# Altium schematic symbol library STM32F0.SchLib: 143 symbols (part 3 of 11)
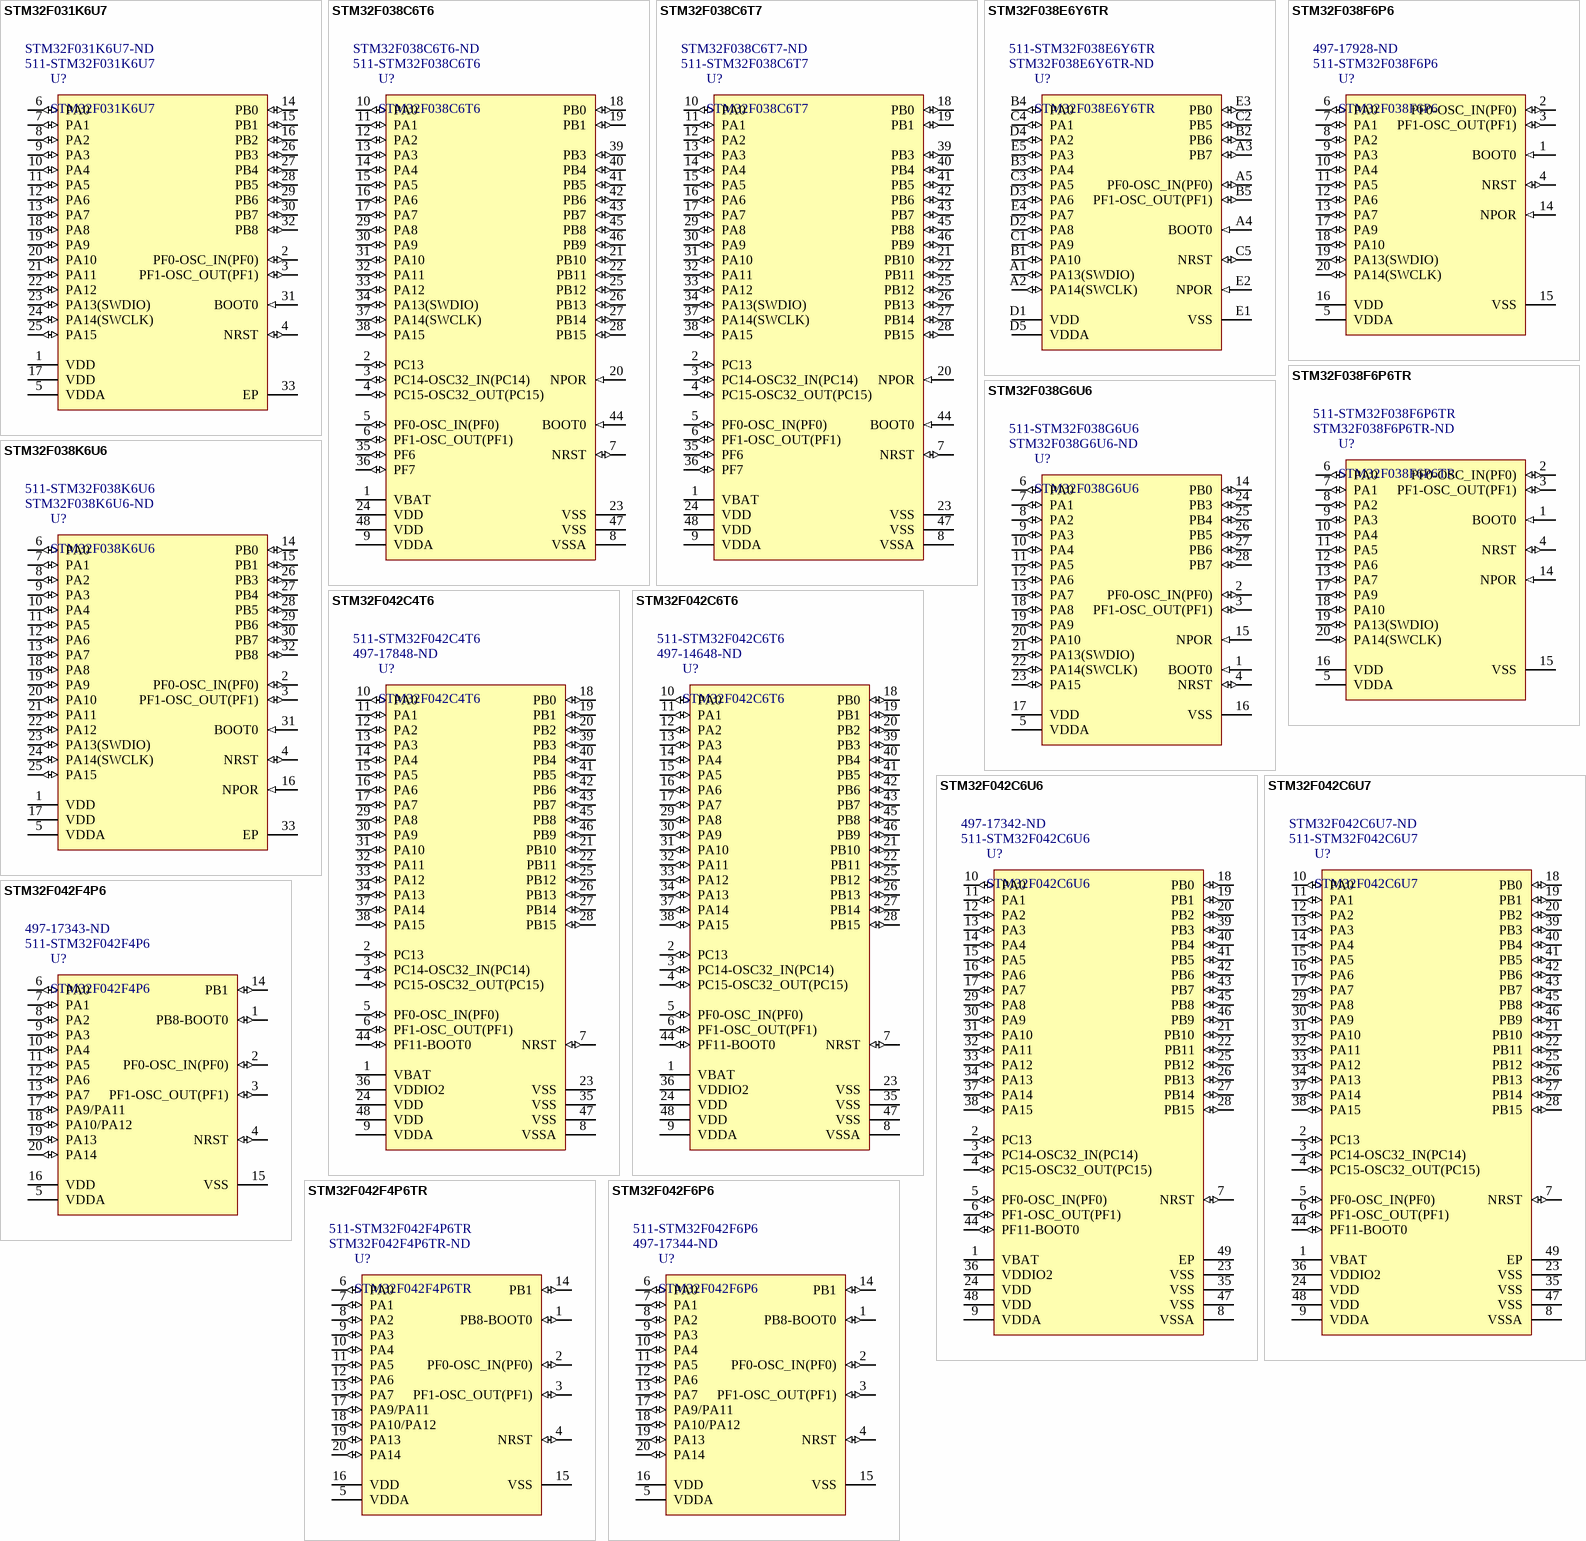
[diagram p16: symbols STM32F031K6U7 to STM32F042F6P6]

## STM32F031K6U7
designator U?  Supplier Part Number 1: 511-STM32F031K6U7  Supplier Part Number 2: STM32F031K6U7-ND
ARM Cortex-M0 32-bit MCU, 32 KB Flash, 4 KB Internal RAM, 27 I/Os, 32-Pin UFQFPN, -40 to 105 degC, Tray; Supply Voltage(Vcc) min (V): 2; Internal RAM Size (kB): 4; FLASH Size (Prog) (kB): 32; Operating Frequency(F) (Processor speed) (MHz): 48; I/Os (High Current): 27; ComponentLink1Description: Manufacturer URL; Mounting Technology: Surface Mount; Package Description: 32-Pin Ultra Thin Fine Pitch Quad Flat No-Lead, 5 x 5 x 0.6 mm Body, 0.5 mm Pitch, Exposed Pad 3.5 x 3.5 mm; ComponentLink1URL: http://www.st.com/; Core: ARM Cortex-M0; ComponentLink2Description: Datasheet; Package Reference: UFQFPN32; ComponentLink2URL: http://www.st.com/st-web-ui/static/active/en/resource/technical/document/datasheet/DM00104043.pdf; DatasheetVersion: Rev. 3; Packing: Tray; Supplier 1: Mouser; Supplier 2: Digi-Key
footprint STM-UFQFPN32_L (QFN, 32-Leads, Body 5.1x5.1mm, Pitch 0.5mm, Thermal Pad 3.5x3.5mm, IPC High Density)
footprint STM-UFQFPN32_M (QFN, 32-Leads, Body 5.1x5.1mm, Pitch 0.5mm, Thermal Pad 3.5x3.5mm, IPC Low Density)
footprint STM-UFQFPN32_N (QFN, 32-Leads, Body 5.1x5.1mm, Pitch 0.5mm, Thermal Pad 3.5x3.5mm, IPC Medium Density)
pins: 1 VDD (power) "Digital power supply", 2 PF0-OSC_IN(PF0) (io) "PF0-OSC_IN(PF0)/OSC_IN", 3 PF1-OSC_OUT(PF1) (io) "PF1-OSC_OUT(PF1)/OSC_OUT", 4 NRST (io) "Device reset input/internal reset output(active low)", 5 VDDA (power) "Analog power supply", 6 PA0 (io) "PA0/TIM2_CH1_ETR,USART1_CTS/ADC_IN0,RTC_TAMP2,WKUP1", 7 PA1 (io) "PA1/TIM2_CH2,EVENTOUT,USART1_RTS/ADC_IN1", 8 PA2 (io) "PA2/TIM2_CH3,USART1_TX/ADC_IN2", 9 PA3 (io) "PA3/TIM2_CH4,USART1_RX/ADC_IN3", 10 PA4 (io) "PA4/SPI1_NSS,I2S1_WS,TIM14_CH1,USART1_CK/ADC_IN4", 11 PA5 (io) "PA5/SPI1_SCK,I2S1_CK,TIM2_CH1_ETR/ADC_IN5", 12 PA6 (io) "PA6/SPI1_MISO,I2S1_MCK,TIM3_CH1,TIM1_BKIN,TIM16_CH1,EVENTOUT/ADC_IN6", 13 PA7 (io) "PA7/SPI1_MOSI,I2S1_SD,TIM3_CH2,TIM14_CH1,TIM1_CH1N,TIM17_CH1,EVENTOUT/ADC_IN7", 14 PB0 (io) "PB0/TIM3_CH3,TIM1_CH2N,EVENTOUT/ADC_IN8", 15 PB1 (io) "PB1/TIM3_CH4,TIM14_CH1,TIM1_CH3N/ADC_IN9", 16 PB2 (io), 17 VDD (power) "Digital power supply", 18 PA8 (io) "PA8/USART1_CK,TIM1_CH1,EVENTOUT,MCO", 19 PA9 (io) "PA9/USART1_TX,TIM1_CH2,I2C1_SCL", 20 PA10 (io) "PA10/USART1_RX,TIM1_CH3,TIM17_BKIN,I2C1_SDA", 21 PA11 (io) "PA11/USART1_CTS,TIM1_CH4,EVENTOUT", 22 PA12 (io) "PA12/USART1_RTS,TIM1_ETR,EVENTOUT", 23 PA13(SWDIO) (io) "PA13(SWDIO)/IR_OUT,SWDIO", 24 PA14(SWCLK) (io) "PA14(SWCLK)/USART1_TX,SWCLK", 25 PA15 (io) "PA15/SPI1_NSS,I2S1_WS,TIM2_CH_ETR,EVENTOUT,USART1_RX", 26 PB3 (io) "PB3/SPI1_SCK,I2S1_CK,TIM2_CH2,EVENTOUT", 27 PB4 (io) "PB4/SPI1_MISO,I2S1_MCK,TIM3_CH1,EVENTOUT", 28 PB5 (io) "PB5/SPI1_MOSI,I2S1_SD,I2C1_SMBA,TIM16_BKIN,TIM3_CH2", 29 PB6 (io) "PB6/I2C1_SCL,USART1_TX,TIM16_CH1N", 30 PB7 (io) "PB7/I2C1_SDA,USART1_RX,TIM17_CH1N", 31 BOOT0 (in) "Boot memory selection", 32 PB8 (io) "PB8/I2C1_SCL,TIM16_CH1", 33 EP (power)

## STM32F038C6T6
designator U?  Supplier Part Number 1: 511-STM32F038C6T6  Supplier Part Number 2: STM32F038C6T6-ND
ARM Cortex-M0 32-bit MCU, 32 KB Flash, 4 KB Internal RAM, 38 I/Os, 48-Pin LQFP, -40 to 85 degC, Tray; Supply Voltage(Vcc) min (V): 1.65; I/Os (High Current): 38; Operating Frequency(F) (Processor speed) (MHz): 48; FLASH Size (Prog) (kB): 32; Internal RAM Size (kB): 4; Package Reference: LQFP48; ComponentLink1URL: http://www.st.com/; Core: ARM Cortex-M0; ComponentLink2Description: Datasheet; Mounting Technology: Surface Mount; ComponentLink2URL: http://www.st.com/st-web-ui/static/active/en/resource/technical/document/datasheet/DM00110868.pdf; Package Description: 48-Pin Low Profile Quad Flat Package, Body 7 x 7 mm, Pitch 0.5 mm; DatasheetVersion: Rev. 4; Packing: Tray; ComponentLink1Description: Manufacturer URL; Supplier 1: Mouser; Supplier 2: Digi-Key
footprint STM-LQFP48_L (QFP, 48-Leads, Body 7x7mm, Pitch 0.5mm, IPC High Density)
footprint STM-LQFP48_M (QFP, 48-Leads, Body 7x7mm, Pitch 0.5mm, IPC Low Density)
footprint STM-LQFP48_N (QFP, 48-Leads, Body 7x7mm, Pitch 0.5mm, IPC Medium Density)
pins: 1 VBAT (power) "Backup power supply", 2 PC13 (io) "PC13/RTC_TAMP1,RTC_TS,RTC_OUT,WKUP2", 3 PC14-OSC32_IN(PC14) (io) "PC14/OSC32_IN", 4 PC15-OSC32_OUT(PC15) (io) "PC15/OSC32_OUT", 5 PF0-OSC_IN(PF0) (io) "PF0/OSC_IN", 6 PF1-OSC_OUT(PF1) (io) "PF1/OSC_OUT", 7 NRST (io) "Device reset input/internal reset output(active low)", 8 VSSA (power) "Analog ground", 9 VDDA (power) "Analog power supply", 10 PA0 (io) "PA0/TIM2_CH1_ETR,USART1_CTS/ADC_IN0,RTC_TAMP2,WKUP1", 11 PA1 (io) "PA1/TIM2_CH2,EVENTOUT,USART1_RTS/ADC_IN1", 12 PA2 (io) "PA2/TIM2_CH3,USART1_TX/ADC_IN2", 13 PA3 (io) "PA3/TIM2_CH4,USART1_RX/ADC_IN3", 14 PA4 (io) "PA4/SPI1_NSS,I2S1_WS,TIM14_CH1,USART1_CK/ADC_IN4", 15 PA5 (io) "PA5/SPI1_SCK,I2S1_CK,TIM2_CH1_ETR/ADC_IN5", 16 PA6 (io) "PA6/SPI1_MISO,I2S1_MCK,TIM3_CH1,TIM1_BKIN,TIM16_CH1,EVENTOUT/ADC_IN6", 17 PA7 (io) "PA7/SPI1_MOSI,I2S1_SD,TIM3_CH2,TIM14_CH1,TIM1_CH1N,TIM17_CH1,EVENTOUT/ADC_IN7", 18 PB0 (io) "PB0/TIM3_CH3,TIM1_CH2N,EVENTOUT/ADC_IN8", 19 PB1 (io) "PB1/TIM3_CH4,TIM14_CH1,TIM1_CH3N/ADC_IN9", 20 NPOR (in) "Device power-on reset input", 21 PB10 (io) "PB10/TIM2_CH3,I2C1_SCL", 22 PB11 (io) "PB11/TIM2_CH4,EVENTOUT,I2C1_SDA", 23 VSS (power) "Ground", 24 VDD (power) "Digital power supply", 25 PB12 (io) "PB12/TIM1_BKIN,EVENTOUT,SPI1_NSS", 26 PB13 (io) "PB13/TIM1_CH1N,SPI1_SCK", 27 PB14 (io) "PB14/TIM1_CH2N,SPI1_MISO", 28 PB15 (io) "PB15/TIM1_CH3N,SPI1_MOSI/RTC_REFIN", 29 PA8 (io) "PA8/USART1_CK,TIM1_CH1,EVENTOUT,MCO", 30 PA9 (io) "PA9/USART1_TX,TIM1_CH2,I2C1_SCL", 31 PA10 (io) "PA10/USART1_RX,TIM1_CH3,TIM17_BKIN,I2C1_SDA", 32 PA11 (io) "PA11/USART1_CTS,TIM1_CH4,EVENTOUT", 33 PA12 (io) "PA12/USART1_RTS,TIM1_ETR,EVENTOUT", 34 PA13(SWDIO) (io) "PA13/IR_OUT,SWDIO", 35 PF6 (io) "PF6/I2C1_SCL", 36 PF7 (io) "PF7/I2C1_SDA", 37 PA14(SWCLK) (io) "PA14/USART1_TX,SWCLK", 38 PA15 (io) "PA15/SPI1_NSS,I2S1_WS,TIM2_CH_ETR,EVENTOUT,USART1_RX", 39 PB3 (io) "PB3/SPI1_SCK,I2S1_CK,TIM2_CH2,EVENTOUT", 40 PB4 (io) "PB4/SPI1_MISO,I2S1_MCK,TIM3_CH1,EVENTOUT", 41 PB5 (io) "PB5/SPI1_MOSI,I2S1_SD,I2C1_SMBA,TIM16_BKIN,TIM3_CH2", 42 PB6 (io) "PB6/I2C1_SCL,USART1_TX,TIM16_CH1N", 43 PB7 (io) "PB7/I2C1_SDA,USART1_RX,TIM17_CH1N", 44 BOOT0 (in) "Boot memory selection", 45 PB8 (io) "PB8/I2C1_SCL,TIM16_CH1", 46 PB9 (io) "PB9/I2C1_SDA,IR_OUT,TIM17_CH1,EVENTOUT", 47 VSS (power) "Ground", 48 VDD (power) "Digital power supply"

## STM32F038C6T7
designator U?  Supplier Part Number 1: 511-STM32F038C6T7  Supplier Part Number 2: STM32F038C6T7-ND
ARM Cortex-M0 32-bit MCU, 32 KB Flash, 4 KB Internal RAM, 38 I/Os, 48-Pin LQFP, -40 to 105 degC, Tray; Supply Voltage(Vcc) min (V): 1.65; Internal RAM Size (kB): 4; I/Os (High Current): 38; FLASH Size (Prog) (kB): 32; Operating Frequency(F) (Processor speed) (MHz): 48; Packing: Tray; Mounting Technology: Surface Mount; ComponentLink2URL: http://www.st.com/st-web-ui/static/active/en/resource/technical/document/datasheet/DM00110868.pdf; ComponentLink1URL: http://www.st.com/; ComponentLink2Description: Datasheet; Package Description: 48-Pin Low Profile Quad Flat Package, Body 7 x 7 mm, Pitch 0.5 mm; Package Reference: LQFP48; ComponentLink1Description: Manufacturer URL; Core: ARM Cortex-M0; DatasheetVersion: Rev. 4; Supplier 1: Mouser; Supplier 2: Digi-Key
footprint STM-LQFP48_L (QFP, 48-Leads, Body 7x7mm, Pitch 0.5mm, IPC High Density)
footprint STM-LQFP48_M (QFP, 48-Leads, Body 7x7mm, Pitch 0.5mm, IPC Low Density)
footprint STM-LQFP48_N (QFP, 48-Leads, Body 7x7mm, Pitch 0.5mm, IPC Medium Density)
pins: 1 VBAT (power) "Backup power supply", 2 PC13 (io) "PC13/RTC_TAMP1,RTC_TS,RTC_OUT,WKUP2", 3 PC14-OSC32_IN(PC14) (io) "PC14/OSC32_IN", 4 PC15-OSC32_OUT(PC15) (io) "PC15/OSC32_OUT", 5 PF0-OSC_IN(PF0) (io) "PF0/OSC_IN", 6 PF1-OSC_OUT(PF1) (io) "PF1/OSC_OUT", 7 NRST (io) "Device reset input/internal reset output(active low)", 8 VSSA (power) "Analog ground", 9 VDDA (power) "Analog power supply", 10 PA0 (io) "PA0/TIM2_CH1_ETR,USART1_CTS/ADC_IN0,RTC_TAMP2,WKUP1", 11 PA1 (io) "PA1/TIM2_CH2,EVENTOUT,USART1_RTS/ADC_IN1", 12 PA2 (io) "PA2/TIM2_CH3,USART1_TX/ADC_IN2", 13 PA3 (io) "PA3/TIM2_CH4,USART1_RX/ADC_IN3", 14 PA4 (io) "PA4/SPI1_NSS,I2S1_WS,TIM14_CH1,USART1_CK/ADC_IN4", 15 PA5 (io) "PA5/SPI1_SCK,I2S1_CK,TIM2_CH1_ETR/ADC_IN5", 16 PA6 (io) "PA6/SPI1_MISO,I2S1_MCK,TIM3_CH1,TIM1_BKIN,TIM16_CH1,EVENTOUT/ADC_IN6", 17 PA7 (io) "PA7/SPI1_MOSI,I2S1_SD,TIM3_CH2,TIM14_CH1,TIM1_CH1N,TIM17_CH1,EVENTOUT/ADC_IN7", 18 PB0 (io) "PB0/TIM3_CH3,TIM1_CH2N,EVENTOUT/ADC_IN8", 19 PB1 (io) "PB1/TIM3_CH4,TIM14_CH1,TIM1_CH3N/ADC_IN9", 20 NPOR (in) "Device power-on reset input", 21 PB10 (io) "PB10/TIM2_CH3,I2C1_SCL", 22 PB11 (io) "PB11/TIM2_CH4,EVENTOUT,I2C1_SDA", 23 VSS (power) "Ground", 24 VDD (power) "Digital power supply", 25 PB12 (io) "PB12/TIM1_BKIN,EVENTOUT,SPI1_NSS", 26 PB13 (io) "PB13/TIM1_CH1N,SPI1_SCK", 27 PB14 (io) "PB14/TIM1_CH2N,SPI1_MISO", 28 PB15 (io) "PB15/TIM1_CH3N,SPI1_MOSI/RTC_REFIN", 29 PA8 (io) "PA8/USART1_CK,TIM1_CH1,EVENTOUT,MCO", 30 PA9 (io) "PA9/USART1_TX,TIM1_CH2,I2C1_SCL", 31 PA10 (io) "PA10/USART1_RX,TIM1_CH3,TIM17_BKIN,I2C1_SDA", 32 PA11 (io) "PA11/USART1_CTS,TIM1_CH4,EVENTOUT", 33 PA12 (io) "PA12/USART1_RTS,TIM1_ETR,EVENTOUT", 34 PA13(SWDIO) (io) "PA13/IR_OUT,SWDIO", 35 PF6 (io) "PF6/I2C1_SCL", 36 PF7 (io) "PF7/I2C1_SDA", 37 PA14(SWCLK) (io) "PA14/USART1_TX,SWCLK", 38 PA15 (io) "PA15/SPI1_NSS,I2S1_WS,TIM2_CH_ETR,EVENTOUT,USART1_RX", 39 PB3 (io) "PB3/SPI1_SCK,I2S1_CK,TIM2_CH2,EVENTOUT", 40 PB4 (io) "PB4/SPI1_MISO,I2S1_MCK,TIM3_CH1,EVENTOUT", 41 PB5 (io) "PB5/SPI1_MOSI,I2S1_SD,I2C1_SMBA,TIM16_BKIN,TIM3_CH2", 42 PB6 (io) "PB6/I2C1_SCL,USART1_TX,TIM16_CH1N", 43 PB7 (io) "PB7/I2C1_SDA,USART1_RX,TIM17_CH1N", 44 BOOT0 (in) "Boot memory selection", 45 PB8 (io) "PB8/I2C1_SCL,TIM16_CH1", 46 PB9 (io) "PB9/I2C1_SDA,IR_OUT,TIM17_CH1,EVENTOUT", 47 VSS (power) "Ground", 48 VDD (power) "Digital power supply"

## STM32F038E6Y6TR
designator U?  Supplier Part Number 1: STM32F038E6Y6TR-ND  Supplier Part Number 2: 511-STM32F038E6Y6TR
ARM Cortex-M0 32-bit MCU, 32 KB Flash, 4 KB Internal RAM, 19 I/Os, 25-Pin WLCSP, -40 to 85 degC, Tape and Reel; Operating Frequency(F) (Processor speed) (MHz): 48; Internal RAM Size (kB): 4; FLASH Size (Prog) (kB): 32; Supply Voltage(Vcc) min (V): 1.65; I/Os (High Current): 20; ComponentLink2Description: Datasheet; Mounting Technology: Surface Mount; Package Reference: WLCSP25; ComponentLink1URL: http://www.st.com/; Core: ARM Cortex-M0; ComponentLink2URL: http://www.st.com/st-web-ui/static/active/en/resource/technical/document/datasheet/DM00110868.pdf; Package Description: 25-Ball Wafer Level Chip Scale package, 2.423 x 2.325 mm Body, 0.4 mm Pitch; DatasheetVersion: Rev. 4; Packing: Tape and Reel; ComponentLink1Description: Manufacturer URL; Supplier 1: Digi-Key; Supplier 2: Mouser
footprint STM-WLCSP25 (BGA, 25-Balls, Body 2.42x2.33mm, Pitch 0.4mm)
pins: A1 PA13(SWDIO) (io) "PA13/IR_OUT,SWDIO", A2 PA14(SWCLK) (io) "PA14/USART1_TX,SWCLK", A3 PB7 (io) "PB7/I2C1_SDA,USART1_RX,TIM17_CH1N", A4 BOOT0 (in) "Boot memory selection", A5 PF0-OSC_IN(PF0) (io) "PF0/OSC_IN", B1 PA10 (io) "PA10/USART1_RX,TIM1_CH3,TIM17_BKIN,I2C1_SDA", B2 PB6 (io) "PB6/I2C1_SCL,USART1_TX,TIM16_CH1N", B3 PA4 (io) "PA4/SPI1_NSS,I2S1_WS,TIM14_CH1,USART1_CK/ADC_IN4", B4 PA0 (io) "PA0/TIM2_CH1_ETR,USART1_CTS/ADC_IN0,RTC_TAMP2,WKUP1", B5 PF1-OSC_OUT(PF1) (io) "PF1/OSC_OUT", C1 PA9 (io) "PA9/USART1_TX,TIM1_CH2,I2C1_SCL", C2 PB5 (io) "PB5/SPI1_MOSI,I2S1_SD,I2C1_SMBA,TIM16_BKIN,TIM3_CH2", C3 PA5 (io) "PA5/SPI1_SCK,I2S1_CK,TIM2_CH1_ETR/ADC_IN5", C4 PA1 (io) "PA1/TIM2_CH2,EVENTOUT,USART1_RTS/ADC_IN1", C5 NRST (io) "Device reset input/internal reset output(active low)", D1 VDD (power) "Digital power supply", D2 PA8 (io) "PA8/USART1_CK,TIM1_CH1,EVENTOUT,MCO", D3 PA6 (io) "PA6/SPI1_MISO,I2S1_MCK,TIM3_CH1,TIM1_BKIN,TIM16_CH1,EVENTOUT/ADC_IN6", D4 PA2 (io) "PA2/TIM2_CH3,USART1_TX/ADC_IN2", D5 VDDA (power) "Analog power supply", E1 VSS (power) "Ground", E2 NPOR (in) "Device power-on reset input", E3 PB0 (io) "PB0/TIM3_CH3,TIM1_CH2N,EVENTOUT/ADC_IN8", E4 PA7 (io) "PA7/SPI1_MOSI,I2S1_SD,TIM3_CH2,TIM14_CH1,TIM1_CH1N,TIM17_CH1,EVENTOUT/ADC_IN7", E5 PA3 (io) "PA3/TIM2_CH4,USART1_RX/ADC_IN3"

## STM32F038F6P6
designator U?  Supplier Part Number 1: 511-STM32F038F6P6  Supplier Part Number 2: 497-17928-ND
ARM Cortex-M0 32-bit MCU, 32 KB Flash, 4 KB Internal RAM, 14 I/Os, 20-Pin TSSOP, -40 to 85 degC, Tray; Operating Frequency(F) (Processor speed) (MHz): 48; Supply Voltage(Vcc) min (V): 1.65; Internal RAM Size (kB): 4; I/Os (High Current): 14; FLASH Size (Prog) (kB): 32; DatasheetVersion: Rev. 4; Packing: Tray; ComponentLink2Description: Datasheet; Mounting Technology: Surface Mount; ComponentLink1Description: Manufacturer URL; ComponentLink1URL: http://www.st.com/; Package Reference: TSSOP20; ComponentLink2URL: http://www.st.com/st-web-ui/static/active/en/resource/technical/document/datasheet/DM00110868.pdf; Package Description: 20-Pin Thin Shrink Small Outline Package, Body 6.5 x 4.4 mm, Pitch 0.65 mm; Core: ARM Cortex-M0; Supplier 1: Mouser; Supplier 2: Digi-Key
footprint STM-TSSOP20_N (SOP, 20-Leads, Body 6.6x4.5mm, Pitch 0.65mm, IPC Medium Density)
footprint STM-TSSOP20_L (SOP, 20-Leads, Body 6.6x4.5mm, Pitch 0.65mm, IPC High Density)
footprint STM-TSSOP20_M (SOP, 20-Leads, Body 6.6x4.5mm, Pitch 0.65mm, IPC Low Density)
pins: 1 BOOT0 (in) "Boot memory selection", 2 PF0-OSC_IN(PF0) (io) "PF0/OSC_IN", 3 PF1-OSC_OUT(PF1) (io) "PF1/OSC_OUT", 4 NRST (io) "Device reset input/internal reset output(active low)", 5 VDDA (power) "Analog power supply", 6 PA0 (io) "PA0/TIM2_CH1_ETR,USART1_CTS/ADC_IN0,RTC_TAMP2,WKUP1", 7 PA1 (io) "PA1/TIM2_CH2,EVENTOUT,USART1_RTS/ADC_IN1", 8 PA2 (io) "PA2/TIM2_CH3,USART1_TX/ADC_IN2", 9 PA3 (io) "PA3/TIM2_CH4,USART1_RX/ADC_IN3", 10 PA4 (io) "PA4/SPI1_NSS,I2S1_WS,TIM14_CH1,USART1_CK/ADC_IN4", 11 PA5 (io) "PA5/SPI1_SCK,I2S1_CK,TIM2_CH1_ETR/ADC_IN5", 12 PA6 (io) "PA6/SPI1_MISO,I2S1_MCK,TIM3_CH1,TIM1_BKIN,TIM16_CH1,EVENTOUT/ADC_IN6", 13 PA7 (io) "PA7/SPI1_MOSI,I2S1_SD,TIM3_CH2,TIM14_CH1,TIM1_CH1N,TIM17_CH1,EVENTOUT/ADC_IN7", 14 NPOR (in) "Device power-on reset input", 15 VSS (power) "Ground", 16 VDD (power) "Digital power supply", 17 PA9 (io) "PA9/USART1_TX,TIM1_CH2,I2C1_SCL", 18 PA10 (io) "PA10/USART1_RX,TIM1_CH3,TIM17_BKIN,I2C1_SDA", 19 PA13(SWDIO) (io) "PA13/IR_OUT,SWDIO", 20 PA14(SWCLK) (io) "PA14/USART1_TX,SWCLK"

## STM32F038F6P6TR
designator U?  Supplier Part Number 1: STM32F038F6P6TR-ND  Supplier Part Number 2: 511-STM32F038F6P6TR
ARM Cortex-M0 32-bit MCU, 32 KB Flash, 4 KB Internal RAM, 14 I/Os, 20-Pin TSSOP, -40 to 85 degC, Tape and Reel; Operating Frequency(F) (Processor speed) (MHz): 48; Supply Voltage(Vcc) min (V): 1.65; Internal RAM Size (kB): 4; I/Os (High Current): 14; FLASH Size (Prog) (kB): 32; ComponentLink2URL: http://www.st.com/st-web-ui/static/active/en/resource/technical/document/datasheet/DM00110868.pdf; ComponentLink1URL: http://www.st.com/; Package Reference: TSSOP20; ComponentLink1Description: Manufacturer URL; Package Description: 20-Pin Thin Shrink Small Outline Package, Body 6.5 x 4.4 mm, Pitch 0.65 mm; Packing: Tape and Reel; Core: ARM Cortex-M0; Mounting Technology: Surface Mount; DatasheetVersion: Rev. 4; ComponentLink2Description: Datasheet; Supplier 1: Digi-Key; Supplier 2: Mouser
footprint STM-TSSOP20_N (SOP, 20-Leads, Body 6.6x4.5mm, Pitch 0.65mm, IPC Medium Density)
footprint STM-TSSOP20_L (SOP, 20-Leads, Body 6.6x4.5mm, Pitch 0.65mm, IPC High Density)
footprint STM-TSSOP20_M (SOP, 20-Leads, Body 6.6x4.5mm, Pitch 0.65mm, IPC Low Density)
pins: 1 BOOT0 (in) "Boot memory selection", 2 PF0-OSC_IN(PF0) (io) "PF0/OSC_IN", 3 PF1-OSC_OUT(PF1) (io) "PF1/OSC_OUT", 4 NRST (io) "Device reset input/internal reset output(active low)", 5 VDDA (power) "Analog power supply", 6 PA0 (io) "PA0/TIM2_CH1_ETR,USART1_CTS/ADC_IN0,RTC_TAMP2,WKUP1", 7 PA1 (io) "PA1/TIM2_CH2,EVENTOUT,USART1_RTS/ADC_IN1", 8 PA2 (io) "PA2/TIM2_CH3,USART1_TX/ADC_IN2", 9 PA3 (io) "PA3/TIM2_CH4,USART1_RX/ADC_IN3", 10 PA4 (io) "PA4/SPI1_NSS,I2S1_WS,TIM14_CH1,USART1_CK/ADC_IN4", 11 PA5 (io) "PA5/SPI1_SCK,I2S1_CK,TIM2_CH1_ETR/ADC_IN5", 12 PA6 (io) "PA6/SPI1_MISO,I2S1_MCK,TIM3_CH1,TIM1_BKIN,TIM16_CH1,EVENTOUT/ADC_IN6", 13 PA7 (io) "PA7/SPI1_MOSI,I2S1_SD,TIM3_CH2,TIM14_CH1,TIM1_CH1N,TIM17_CH1,EVENTOUT/ADC_IN7", 14 NPOR (in) "Device power-on reset input", 15 VSS (power) "Ground", 16 VDD (power) "Digital power supply", 17 PA9 (io) "PA9/USART1_TX,TIM1_CH2,I2C1_SCL", 18 PA10 (io) "PA10/USART1_RX,TIM1_CH3,TIM17_BKIN,I2C1_SDA", 19 PA13(SWDIO) (io) "PA13/IR_OUT,SWDIO", 20 PA14(SWCLK) (io) "PA14/USART1_TX,SWCLK"

## STM32F038G6U6
designator U?  Supplier Part Number 1: STM32F038G6U6-ND  Supplier Part Number 2: 511-STM32F038G6U6
ARM Cortex-M0 32-bit MCU, 32 KB Flash, 4 KB Internal RAM, 22 I/Os, 28-Pin UFQFPN, -40 to 85 degC, Tray; I/Os (High Current): 22; Internal RAM Size (kB): 4; Operating Frequency(F) (Processor speed) (MHz): 48; Supply Voltage(Vcc) min (V): 1.65; FLASH Size (Prog) (kB): 32; Package Description: 28-Pin Ultra Thin Fine Pitch Quad Flat No-Lead, 4 x 4 x 0.6 mm Body, 0.5 mm Pitch; ComponentLink2Description: Datasheet; DatasheetVersion: Rev. 4; Package Reference: UFQFPN28; ComponentLink1Description: Manufacturer URL; ComponentLink2URL: http://www.st.com/st-web-ui/static/active/en/resource/technical/document/datasheet/DM00110868.pdf; Mounting Technology: Surface Mount; ComponentLink1URL: http://www.st.com/; Core: ARM Cortex-M0; Packing: Tray; Supplier 1: Digi-Key; Supplier 2: Mouser
footprint STM-UFQFPN28_V (QFN, 28-Leads, Body 4.1x4.1mm, Pitch 0.5mm)
pins: 1 BOOT0 (in) "Boot memory selection", 2 PF0-OSC_IN(PF0) (io) "PF0-OSC_IN(PF0)/OSC_IN", 3 PF1-OSC_OUT(PF1) (io) "PF1-OSC_OUT(PF1)/OSC_OUT", 4 NRST (io) "Device reset input/internal reset output(active low)", 5 VDDA (power) "Analog power supply", 6 PA0 (io) "PA0/TIM2_CH1_ETR,USART1_CTS/ADC_IN0,RTC_TAMP2,WKUP1", 7 PA1 (io) "PA1/TIM2_CH2,EVENTOUT,USART1_RTS/ADC_IN1", 8 PA2 (io) "PA2/TIM2_CH3,USART1_TX/ADC_IN2", 9 PA3 (io) "PA3/TIM2_CH4,USART1_RX/ADC_IN3", 10 PA4 (io) "PA4/SPI1_NSS,I2S1_WS,TIM14_CH1,USART1_CK/ADC_IN4", 11 PA5 (io) "PA5/SPI1_SCK,I2S1_CK,TIM2_CH1_ETR/ADC_IN5", 12 PA6 (io) "PA6/SPI1_MISO,I2S1_MCK,TIM3_CH1,TIM1_BKIN,TIM16_CH1,EVENTOUT/ADC_IN6", 13 PA7 (io) "PA7/SPI1_MOSI,I2S1_SD,TIM3_CH2,TIM14_CH1,TIM1_CH1N,TIM17_CH1,EVENTOUT/ADC_IN7", 14 PB0 (io) "PB0/TIM3_CH3,TIM1_CH2N,EVENTOUT/ADC_IN8", 15 NPOR (in) "Device power-on reset input", 16 VSS (power) "Ground", 17 VDD (power) "Digital power supply", 18 PA8 (io) "PA8/USART1_CK,TIM1_CH1,EVENTOUT,MCO", 19 PA9 (io) "PA9/USART1_TX,TIM1_CH2,I2C1_SCL", 20 PA10 (io) "PA10/USART1_RX,TIM1_CH3,TIM17_BKIN,I2C1_SDA", 21 PA13(SWDIO) (io) "PA13(SWDIO)/IR_OUT,SWDIO", 22 PA14(SWCLK) (io) "PA14(SWCLK)/USART1_TX,SWCLK", 23 PA15 (io) "PA15/SPI1_NSS,I2S1_WS,TIM2_CH_ETR,EVENTOUT,USART1_RX", 24 PB3 (io) "PB3/SPI1_SCK,I2S1_CK,TIM2_CH2,EVENTOUT", 25 PB4 (io) "PB4/SPI1_MISO,I2S1_MCK,TIM3_CH1,EVENTOUT", 26 PB5 (io) "PB5/SPI1_MOSI,I2S1_SD,I2C1_SMBA,TIM16_BKIN,TIM3_CH2", 27 PB6 (io) "PB6/I2C1_SCL,USART1_TX,TIM16_CH1N", 28 PB7 (io) "PB7/I2C1_SDA,USART1_RX,TIM17_CH1N"

## STM32F038K6U6
designator U?  Supplier Part Number 1: STM32F038K6U6-ND  Supplier Part Number 2: 511-STM32F038K6U6
ARM Cortex-M0 32-bit MCU, 32 KB Flash, 4 KB Internal RAM, 26 I/Os, 32-Pin UFQFPN, -40 to 85 degC, Tray; Internal RAM Size (kB): 4; Supply Voltage(Vcc) min (V): 1.65; Operating Frequency(F) (Processor speed) (MHz): 48; I/Os (High Current): 26; FLASH Size (Prog) (kB): 32; Packing: Tray; DatasheetVersion: Rev. 4; ComponentLink2Description: Datasheet; ComponentLink1Description: Manufacturer URL; ComponentLink1URL: http://www.st.com/; Package Reference: UFQFPN32; Package Description: 32-Pin Ultra Thin Fine Pitch Quad Flat No-Lead, 5 x 5 x 0.6 mm Body, 0.5 mm Pitch, Exposed Pad 3.5 x 3.5 mm; ComponentLink2URL: http://www.st.com/st-web-ui/static/active/en/resource/technical/document/datasheet/DM00110868.pdf; Mounting Technology: Surface Mount; Core: ARM Cortex-M0; Supplier 1: Digi-Key; Supplier 2: Mouser
footprint STM-UFQFPN32_L (QFN, 32-Leads, Body 5.1x5.1mm, Pitch 0.5mm, Thermal Pad 3.5x3.5mm, IPC High Density)
footprint STM-UFQFPN32_M (QFN, 32-Leads, Body 5.1x5.1mm, Pitch 0.5mm, Thermal Pad 3.5x3.5mm, IPC Low Density)
footprint STM-UFQFPN32_N (QFN, 32-Leads, Body 5.1x5.1mm, Pitch 0.5mm, Thermal Pad 3.5x3.5mm, IPC Medium Density)
pins: 1 VDD (power) "Digital power supply", 2 PF0-OSC_IN(PF0) (io) "PF0-OSC_IN(PF0)/OSC_IN", 3 PF1-OSC_OUT(PF1) (io) "PF1-OSC_OUT(PF1)/OSC_OUT", 4 NRST (io) "Device reset input/internal reset output(active low)", 5 VDDA (power) "Analog power supply", 6 PA0 (io) "PA0/TIM2_CH1_ETR,USART1_CTS/ADC_IN0,RTC_TAMP2,WKUP1", 7 PA1 (io) "PA1/TIM2_CH2,EVENTOUT,USART1_RTS/ADC_IN1", 8 PA2 (io) "PA2/TIM2_CH3,USART1_TX/ADC_IN2", 9 PA3 (io) "PA3/TIM2_CH4,USART1_RX/ADC_IN3", 10 PA4 (io) "PA4/SPI1_NSS,I2S1_WS,TIM14_CH1,USART1_CK/ADC_IN4", 11 PA5 (io) "PA5/SPI1_SCK,I2S1_CK,TIM2_CH1_ETR/ADC_IN5", 12 PA6 (io) "PA6/SPI1_MISO,I2S1_MCK,TIM3_CH1,TIM1_BKIN,TIM16_CH1,EVENTOUT/ADC_IN6", 13 PA7 (io) "PA7/SPI1_MOSI,I2S1_SD,TIM3_CH2,TIM14_CH1,TIM1_CH1N,TIM17_CH1,EVENTOUT/ADC_IN7", 14 PB0 (io) "PB0/TIM3_CH3,TIM1_CH2N,EVENTOUT/ADC_IN8", 15 PB1 (io) "PB1/TIM3_CH4,TIM14_CH1,TIM1_CH3N/ADC_IN9", 16 NPOR (in) "Device power-on reset input", 17 VDD (power) "Digital power supply", 18 PA8 (io) "PA8/USART1_CK,TIM1_CH1,EVENTOUT,MCO", 19 PA9 (io) "PA9/USART1_TX,TIM1_CH2,I2C1_SCL", 20 PA10 (io) "PA10/USART1_RX,TIM1_CH3,TIM17_BKIN,I2C1_SDA", 21 PA11 (io) "PA11/USART1_CTS,TIM1_CH4,EVENTOUT", 22 PA12 (io) "PA12/USART1_RTS,TIM1_ETR,EVENTOUT", 23 PA13(SWDIO) (io) "PA13(SWDIO)/IR_OUT,SWDIO", 24 PA14(SWCLK) (io) "PA14(SWCLK)/USART1_TX,SWCLK", 25 PA15 (io) "PA15/SPI1_NSS,I2S1_WS,TIM2_CH_ETR,EVENTOUT,USART1_RX", 26 PB3 (io) "PB3/SPI1_SCK,I2S1_CK,TIM2_CH2,EVENTOUT", 27 PB4 (io) "PB4/SPI1_MISO,I2S1_MCK,TIM3_CH1,EVENTOUT", 28 PB5 (io) "PB5/SPI1_MOSI,I2S1_SD,I2C1_SMBA,TIM16_BKIN,TIM3_CH2", 29 PB6 (io) "PB6/I2C1_SCL,USART1_TX,TIM16_CH1N", 30 PB7 (io) "PB7/I2C1_SDA,USART1_RX,TIM17_CH1N", 31 BOOT0 (in) "Boot memory selection", 32 PB8 (io) "PB8/I2C1_SCL,TIM16_CH1", 33 EP (power)

## STM32F042C4T6
designator U?  Supplier Part Number 1: 497-17848-ND  Supplier Part Number 2: 511-STM32F042C4T6
ARM Cortex-M0 32-bit MCU, 16 KB Flash, 6 KB Internal RAM, 38 I/Os, 48-Pin LQFP, -40 to 85 degC, Tray; FLASH Size (Prog) (kB): 16; Internal RAM Size (kB): 6; Operating Frequency(F) (Processor speed) (MHz): 48; I/Os (High Current): 38; Supply Voltage(Vcc) min (V): 2; ComponentLink1URL: http://www.st.com/; Packing: Tray; ComponentLink1Description: Manufacturer URL; Mounting Technology: Surface Mount; Package Description: 48-Pin Low Profile Quad Flat Package, Body 7 x 7 mm, Pitch 0.5 mm; DatasheetVersion: Rev. 5; Package Reference: LQFP48; Core: ARM Cortex-M0; ComponentLink2Description: Datasheet; ComponentLink2URL: http://www.st.com/st-web-ui/static/active/en/resource/technical/document/datasheet/DM00105814.pdf; Supplier 1: Digi-Key; Supplier 2: Mouser
footprint STM-LQFP48_L (QFP, 48-Leads, Body 7x7mm, Pitch 0.5mm, IPC High Density)
footprint STM-LQFP48_M (QFP, 48-Leads, Body 7x7mm, Pitch 0.5mm, IPC Low Density)
footprint STM-LQFP48_N (QFP, 48-Leads, Body 7x7mm, Pitch 0.5mm, IPC Medium Density)
pins: 1 VBAT (power) "Backup power supply", 2 PC13 (io) "PC13/WKUP2,RTC_TAMP1,RTC_TS,RTC_OUT", 3 PC14-OSC32_IN(PC14) (io) "PC14-OSC32_IN(PC14)/OSC32_IN", 4 PC15-OSC32_OUT(PC15) (io) "PC15-OSC32_OUT(PC15)/OSC32_OUT", 5 PF0-OSC_IN(PF0) (io) "PF0-OSC_IN(PF0)/CRS_SYNC,I2C1_SDA/OSC_IN", 6 PF1-OSC_OUT(PF1) (io) "PF1-OSC_OUT(PF1)/I2C1_SCL/OSC_OUT", 7 NRST (io) "Device reset input/internal reset output(active low)", 8 VSSA (power) "Analog ground", 9 VDDA (power) "Analog power supply", 10 PA0 (io) "PA0/USART2_CTS,TIM2_CH1_ETR,TSC_G1_IO1/RTC_TAMP2,WKUP1,ADC_IN0", 11 PA1 (io) "PA1/USART2_RTS,TIM2_CH2,TSC_G1_IO2,EVENTOUT/ADC_IN1", 12 PA2 (io) "PA2/USART2_TX,TIM2_CH3,TSC_G1_IO3/ADC_IN2,WKUP4", 13 PA3 (io) "PA3/USART2_RX,TIM2_CH4,TSC_G1_IO4/ADC_IN3", 14 PA4 (io) "PA4/SPI1_NSS,I2S1_WS,TIM14_CH1,TSC_G2_IO1,USART2_CK,USB_NOE/ADC_IN4", 15 PA5 (io) "PA5/SPI1_SCK,I2S1_CK,CEC,TIM2_CH1_ETR,TSC_G2_IO2/ADC_IN5", 16 PA6 (io) "PA6/SPI1_MISO,I2S1_MCK,TIM3_CH1,TIM1_BKIN,TIM16_CH1,TSC_G2_IO3,EVENTOUT/ADC_IN6", 17 PA7 (io) "PA7/SPI1_MOSI,I2S1_SD,TIM3_CH2,TIM14_CH1,TIM1_CH1N,TIM17_CH1,TSC_G2_IO4,EVENTOUT/ADC_IN7", 18 PB0 (io) "PB0/TIM3_CH3,TIM1_CH2N,TSC_G3_IO2,EVENTOUT/ADC_IN8", 19 PB1 (io) "PB1/TIM3_CH4,TIM14_CH1,TIM1_CH3N,TSC_G3_IO3/ADC_IN9", 20 PB2 (io) "PB2/TSC_G3_IO4", 21 PB10 (io) "PB10/SPI2_SCK,CEC,TSC_SYNC,TIM2_CH3,I2C1_SCL", 22 PB11 (io) "PB11/TIM2_CH4,EVENTOUT,I2C1_SDA", 23 VSS (power) "Ground", 24 VDD (power) "Digital power supply", 25 PB12 (io) "PB12/TIM1_BKIN,SPI2_NSS,EVENTOUT", 26 PB13 (io) "PB13/SPI2_SCK,TIM1_CH1N,I2C1_SCL", 27 PB14 (io) "PB14/SPI2_MISO,TIM1_CH2N,I2C1_SDA", 28 PB15 (io) "PB15/SPI2_MOSI,TIM1_CH3N/WKUP7,RTC_REFIN", 29 PA8 (io) "PA8/USART1_CK,TIM1_CH1,EVENTOUT,MCO,CRS_SYNC", 30 PA9 (io) "PA9/USART1_TX,TIM1_CH2,TSC_G4_IO1,I2C1_SCL", 31 PA10 (io) "PA10/USART1_RX,TIM1_CH3,TIM17_BKIN,TSC_G4_IO2,I2C1_SDA", 32 PA11 (io) "PA11/CAN_RX,USART1_CTS,TIM1_CH4,TSC_G4_IO3,EVENTOUT,I2C1_SCL/USB_DM", 33 PA12 (io) "PA12/CAN_TX,USART1_RTS,TIM1_ETR,TSC_G4_IO4,EVENTOUT,I2C1_SDA/USB_DP", 34 PA13 (io) "PA13/IR_OUT,SWDIO,USB_NOE", 35 VSS (power) "Ground", 36 VDDIO2 (power) "Digital power supply", 37 PA14 (io) "PA14/USART2_TX,SWCLK", 38 PA15 (io) "PA15/SPI1_NSS,I2S1_WS,USART2_RX,TIM2_CH1_ETR,EVENTOUT,USB_NOE", 39 PB3 (io) "PB3/SPI1_SCK,I2S1_CK,TIM2_CH2,TSC_G5_IO1,EVENTOUT", 40 PB4 (io) "PB4/SPI1_MISO,I2S1_MCK,TIM17_BKIN,TIM3_CH1,TSC_G5_IO2,EVENTOUT", 41 PB5 (io) "PB5/SPI1_MOSI,I2S1_SD,I2C1_SMBA,TIM16_BKIN,TIM3_CH2/WKUP6", 42 PB6 (io) "PB6/I2C1_SCL,USART1_TX,TIM16_CH1N,TSC_G5_IO3", 43 PB7 (io) "PB7/I2C1_SDA,USART1_RX,TIM17_CH1N,TSC_G5_IO4", 44 PF11-BOOT0 (io), 45 PB8 (io) "PB8/I2C1_SCL,CEC,TIM16_CH1,TSC_SYNC,CAN_RX", 46 PB9 (io) "PB9/SPI2_NSS,I2C1_SDA,IR_OUT,TIM17_CH1,EVENTOUT,CAN_TX", 47 VSS (power) "Ground", 48 VDD (power) "Digital power supply"

## STM32F042C6T6
designator U?  Supplier Part Number 1: 497-14648-ND  Supplier Part Number 2: 511-STM32F042C6T6
ARM Cortex-M0 32-bit MCU, 32 KB Flash, 6 KB Internal RAM, 38 I/Os, 48-Pin LQFP, -40 to 85 degC, Tray; Operating Frequency(F) (Processor speed) (MHz): 48; FLASH Size (Prog) (kB): 32; Supply Voltage(Vcc) min (V): 2; Internal RAM Size (kB): 6; I/Os (High Current): 38; DatasheetVersion: Rev. 5; Core: ARM Cortex-M0; Mounting Technology: Surface Mount; Package Description: 48-Pin Low Profile Quad Flat Package, Body 7 x 7 mm, Pitch 0.5 mm; ComponentLink2Description: Datasheet; Package Reference: LQFP48; Packing: Tray; ComponentLink1Description: Manufacturer URL; ComponentLink1URL: http://www.st.com/; ComponentLink2URL: http://www.st.com/st-web-ui/static/active/en/resource/technical/document/datasheet/DM00105814.pdf; Supplier 1: Digi-Key; Supplier 2: Mouser
footprint STM-LQFP48_L (QFP, 48-Leads, Body 7x7mm, Pitch 0.5mm, IPC High Density)
footprint STM-LQFP48_M (QFP, 48-Leads, Body 7x7mm, Pitch 0.5mm, IPC Low Density)
footprint STM-LQFP48_N (QFP, 48-Leads, Body 7x7mm, Pitch 0.5mm, IPC Medium Density)
pins: 1 VBAT (power) "Backup power supply", 2 PC13 (io) "PC13/WKUP2,RTC_TAMP1,RTC_TS,RTC_OUT", 3 PC14-OSC32_IN(PC14) (io) "PC14-OSC32_IN(PC14)/OSC32_IN", 4 PC15-OSC32_OUT(PC15) (io) "PC15-OSC32_OUT(PC15)/OSC32_OUT", 5 PF0-OSC_IN(PF0) (io) "PF0-OSC_IN(PF0)/CRS_SYNC,I2C1_SDA/OSC_IN", 6 PF1-OSC_OUT(PF1) (io) "PF1-OSC_OUT(PF1)/I2C1_SCL/OSC_OUT", 7 NRST (io) "Device reset input/internal reset output(active low)", 8 VSSA (power) "Analog ground", 9 VDDA (power) "Analog power supply", 10 PA0 (io) "PA0/USART2_CTS,TIM2_CH1_ETR,TSC_G1_IO1/RTC_TAMP2,WKUP1,ADC_IN0", 11 PA1 (io) "PA1/USART2_RTS,TIM2_CH2,TSC_G1_IO2,EVENTOUT/ADC_IN1", 12 PA2 (io) "PA2/USART2_TX,TIM2_CH3,TSC_G1_IO3/ADC_IN2,WKUP4", 13 PA3 (io) "PA3/USART2_RX,TIM2_CH4,TSC_G1_IO4/ADC_IN3", 14 PA4 (io) "PA4/SPI1_NSS,I2S1_WS,TIM14_CH1,TSC_G2_IO1,USART2_CK,USB_NOE/ADC_IN4", 15 PA5 (io) "PA5/SPI1_SCK,I2S1_CK,CEC,TIM2_CH1_ETR,TSC_G2_IO2/ADC_IN5", 16 PA6 (io) "PA6/SPI1_MISO,I2S1_MCK,TIM3_CH1,TIM1_BKIN,TIM16_CH1,TSC_G2_IO3,EVENTOUT/ADC_IN6", 17 PA7 (io) "PA7/SPI1_MOSI,I2S1_SD,TIM3_CH2,TIM14_CH1,TIM1_CH1N,TIM17_CH1,TSC_G2_IO4,EVENTOUT/ADC_IN7", 18 PB0 (io) "PB0/TIM3_CH3,TIM1_CH2N,TSC_G3_IO2,EVENTOUT/ADC_IN8", 19 PB1 (io) "PB1/TIM3_CH4,TIM14_CH1,TIM1_CH3N,TSC_G3_IO3/ADC_IN9", 20 PB2 (io) "PB2/TSC_G3_IO4", 21 PB10 (io) "PB10/SPI2_SCK,CEC,TSC_SYNC,TIM2_CH3,I2C1_SCL", 22 PB11 (io) "PB11/TIM2_CH4,EVENTOUT,I2C1_SDA", 23 VSS (power) "Ground", 24 VDD (power) "Digital power supply", 25 PB12 (io) "PB12/TIM1_BKIN,SPI2_NSS,EVENTOUT", 26 PB13 (io) "PB13/SPI2_SCK,TIM1_CH1N,I2C1_SCL", 27 PB14 (io) "PB14/SPI2_MISO,TIM1_CH2N,I2C1_SDA", 28 PB15 (io) "PB15/SPI2_MOSI,TIM1_CH3N/WKUP7,RTC_REFIN", 29 PA8 (io) "PA8/USART1_CK,TIM1_CH1,EVENTOUT,MCO,CRS_SYNC", 30 PA9 (io) "PA9/USART1_TX,TIM1_CH2,TSC_G4_IO1,I2C1_SCL", 31 PA10 (io) "PA10/USART1_RX,TIM1_CH3,TIM17_BKIN,TSC_G4_IO2,I2C1_SDA", 32 PA11 (io) "PA11/CAN_RX,USART1_CTS,TIM1_CH4,TSC_G4_IO3,EVENTOUT,I2C1_SCL/USB_DM", 33 PA12 (io) "PA12/CAN_TX,USART1_RTS,TIM1_ETR,TSC_G4_IO4,EVENTOUT,I2C1_SDA/USB_DP", 34 PA13 (io) "PA13/IR_OUT,SWDIO,USB_NOE", 35 VSS (power) "Ground", 36 VDDIO2 (power) "Digital power supply", 37 PA14 (io) "PA14/USART2_TX,SWCLK", 38 PA15 (io) "PA15/SPI1_NSS,I2S1_WS,USART2_RX,TIM2_CH1_ETR,EVENTOUT,USB_NOE", 39 PB3 (io) "PB3/SPI1_SCK,I2S1_CK,TIM2_CH2,TSC_G5_IO1,EVENTOUT", 40 PB4 (io) "PB4/SPI1_MISO,I2S1_MCK,TIM17_BKIN,TIM3_CH1,TSC_G5_IO2,EVENTOUT", 41 PB5 (io) "PB5/SPI1_MOSI,I2S1_SD,I2C1_SMBA,TIM16_BKIN,TIM3_CH2/WKUP6", 42 PB6 (io) "PB6/I2C1_SCL,USART1_TX,TIM16_CH1N,TSC_G5_IO3", 43 PB7 (io) "PB7/I2C1_SDA,USART1_RX,TIM17_CH1N,TSC_G5_IO4", 44 PF11-BOOT0 (io), 45 PB8 (io) "PB8/I2C1_SCL,CEC,TIM16_CH1,TSC_SYNC,CAN_RX", 46 PB9 (io) "PB9/SPI2_NSS,I2C1_SDA,IR_OUT,TIM17_CH1,EVENTOUT,CAN_TX", 47 VSS (power) "Ground", 48 VDD (power) "Digital power supply"

## STM32F042C6U6
designator U?  Supplier Part Number 1: 511-STM32F042C6U6  Supplier Part Number 2: 497-17342-ND
ARM Cortex-M0 32-bit MCU, 32 KB Flash, 6 KB Internal RAM, 38 I/Os, 48-Pin UFQFPN, -40 to 85 degC, Tray; Internal RAM Size (kB): 6; Supply Voltage(Vcc) min (V): 2; I/Os (High Current): 38; FLASH Size (Prog) (kB): 32; Operating Frequency(F) (Processor speed) (MHz): 48; ComponentLink2Description: Datasheet; Mounting Technology: Surface Mount; ComponentLink1Description: Manufacturer URL; ComponentLink1URL: http://www.st.com/; Core: ARM Cortex-M0; Package Reference: UFQFPN48; Packing: Tray; ComponentLink2URL: http://www.st.com/st-web-ui/static/active/en/resource/technical/document/datasheet/DM00105814.pdf; DatasheetVersion: Rev. 5; Package Description: 48-Pin Ultra Thin Fine Pitch Quad Flat No-Lead, 7 x 7 x 0.6 mm Body, 0.5 mm Pitch, Exposed Pad; Supplier 1: Mouser; Supplier 2: Digi-Key
footprint STM-UFQFPN48_L (QFN, 48-Leads, Body 7.1x7.1mm, Pitch 0.5mm, Thermal Pad 5.6x5.6mm, IPC High Density)
footprint STM-UFQFPN48_N (QFN, 48-Leads, Body 7.1x7.1mm, Pitch 0.5mm, Thermal Pad 5.6x5.6mm, IPC Medium Density)
footprint STM-UFQFPN48_M (QFN, 48-Leads, Body 7.1x7.1mm, Pitch 0.5mm, Thermal Pad 5.6x5.6mm, IPC Low Density)
pins: 1 VBAT (power) "Backup power supply", 2 PC13 (io) "PC13/WKUP2,RTC_TAMP1,RTC_TS,RTC_OUT", 3 PC14-OSC32_IN(PC14) (io) "PC14-OSC32_IN(PC14)/OSC32_IN", 4 PC15-OSC32_OUT(PC15) (io) "PC15-OSC32_OUT(PC15)/OSC32_OUT", 5 PF0-OSC_IN(PF0) (io) "PF0-OSC_IN(PF0)/CRS_SYNC,I2C1_SDA/OSC_IN", 6 PF1-OSC_OUT(PF1) (io) "PF1-OSC_OUT(PF1)/I2C1_SCL/OSC_OUT", 7 NRST (io) "Device reset input/internal reset output(active low)", 8 VSSA (power) "Analog ground", 9 VDDA (power) "Analog power supply", 10 PA0 (io) "PA0/USART2_CTS,TIM2_CH1_ETR,TSC_G1_IO1/RTC_TAMP2,WKUP1,ADC_IN0", 11 PA1 (io) "PA1/USART2_RTS,TIM2_CH2,TSC_G1_IO2,EVENTOUT/ADC_IN1", 12 PA2 (io) "PA2/USART2_TX,TIM2_CH3,TSC_G1_IO3/ADC_IN2,WKUP4", 13 PA3 (io) "PA3/USART2_RX,TIM2_CH4,TSC_G1_IO4/ADC_IN3", 14 PA4 (io) "PA4/SPI1_NSS,I2S1_WS,TIM14_CH1,TSC_G2_IO1,USART2_CK,USB_NOE/ADC_IN4", 15 PA5 (io) "PA5/SPI1_SCK,I2S1_CK,CEC,TIM2_CH1_ETR,TSC_G2_IO2/ADC_IN5", 16 PA6 (io) "PA6/SPI1_MISO,I2S1_MCK,TIM3_CH1,TIM1_BKIN,TIM16_CH1,TSC_G2_IO3,EVENTOUT/ADC_IN6", 17 PA7 (io) "PA7/SPI1_MOSI,I2S1_SD,TIM3_CH2,TIM14_CH1,TIM1_CH1N,TIM17_CH1,TSC_G2_IO4,EVENTOUT/ADC_IN7", 18 PB0 (io) "PB0/TIM3_CH3,TIM1_CH2N,TSC_G3_IO2,EVENTOUT/ADC_IN8", 19 PB1 (io) "PB1/TIM3_CH4,TIM14_CH1,TIM1_CH3N,TSC_G3_IO3/ADC_IN9", 20 PB2 (io) "PB2/TSC_G3_IO4", 21 PB10 (io) "PB10/SPI2_SCK,CEC,TSC_SYNC,TIM2_CH3,I2C1_SCL", 22 PB11 (io) "PB11/TIM2_CH4,EVENTOUT,I2C1_SDA", 23 VSS (power) "Ground", 24 VDD (power) "Digital power supply", 25 PB12 (io) "PB12/TIM1_BKIN,SPI2_NSS,EVENTOUT", 26 PB13 (io) "PB13/SPI2_SCK,TIM1_CH1N,I2C1_SCL", 27 PB14 (io) "PB14/SPI2_MISO,TIM1_CH2N,I2C1_SDA", 28 PB15 (io) "PB15/SPI2_MOSI,TIM1_CH3N/WKUP7,RTC_REFIN", 29 PA8 (io) "PA8/USART1_CK,TIM1_CH1,EVENTOUT,MCO,CRS_SYNC", 30 PA9 (io) "PA9/USART1_TX,TIM1_CH2,TSC_G4_IO1,I2C1_SCL", 31 PA10 (io) "PA10/USART1_RX,TIM1_CH3,TIM17_BKIN,TSC_G4_IO2,I2C1_SDA", 32 PA11 (io) "PA11/CAN_RX,USART1_CTS,TIM1_CH4,TSC_G4_IO3,EVENTOUT,I2C1_SCL/USB_DM", 33 PA12 (io) "PA12/CAN_TX,USART1_RTS,TIM1_ETR,TSC_G4_IO4,EVENTOUT,I2C1_SDA/USB_DP", 34 PA13 (io) "PA13/IR_OUT,SWDIO,USB_NOE", 35 VSS (power) "Ground", 36 VDDIO2 (power) "Digital power supply", 37 PA14 (io) "PA14/USART2_TX,SWCLK", 38 PA15 (io) "PA15/SPI1_NSS,I2S1_WS,USART2_RX,TIM2_CH1_ETR,EVENTOUT,USB_NOE", 39 PB3 (io) "PB3/SPI1_SCK,I2S1_CK,TIM2_CH2,TSC_G5_IO1,EVENTOUT", 40 PB4 (io) "PB4/SPI1_MISO,I2S1_MCK,TIM17_BKIN,TIM3_CH1,TSC_G5_IO2,EVENTOUT", 41 PB5 (io) "PB5/SPI1_MOSI,I2S1_SD,I2C1_SMBA,TIM16_BKIN,TIM3_CH2/WKUP6", 42 PB6 (io) "PB6/I2C1_SCL,USART1_TX,TIM16_CH1N,TSC_G5_IO3", 43 PB7 (io) "PB7/I2C1_SDA,USART1_RX,TIM17_CH1N,TSC_G5_IO4", 44 PF11-BOOT0 (io), 45 PB8 (io) "PB8/I2C1_SCL,CEC,TIM16_CH1,TSC_SYNC,CAN_RX", 46 PB9 (io) "PB9/SPI2_NSS,I2C1_SDA,IR_OUT,TIM17_CH1,EVENTOUT,CAN_TX", 47 VSS (power) "Ground", 48 VDD (power) "Digital power supply", 49 EP (power)

## STM32F042C6U7
designator U?  Supplier Part Number 1: 511-STM32F042C6U7  Supplier Part Number 2: STM32F042C6U7-ND
ARM Cortex-M0 32-bit MCU, 32 KB Flash, 6 KB Internal RAM, 38 I/Os, 48-Pin UFQFPN, -40 to 105 degC, Tray; Operating Frequency(F) (Processor speed) (MHz): 48; Supply Voltage(Vcc) min (V): 2; FLASH Size (Prog) (kB): 32; I/Os (High Current): 38; Internal RAM Size (kB): 6; ComponentLink1URL: http://www.st.com/; ComponentLink2URL: http://www.st.com/st-web-ui/static/active/en/resource/technical/document/datasheet/DM00105814.pdf; Package Reference: UFQFPN48; ComponentLink1Description: Manufacturer URL; Mounting Technology: Surface Mount; Packing: Tray; Core: ARM Cortex-M0; Package Description: 48-Pin Ultra Thin Fine Pitch Quad Flat No-Lead, 7 x 7 x 0.6 mm Body, 0.5 mm Pitch, Exposed Pad; DatasheetVersion: Rev. 5; ComponentLink2Description: Datasheet; Supplier 1: Mouser; Supplier 2: Digi-Key
footprint STM-UFQFPN48_L (QFN, 48-Leads, Body 7.1x7.1mm, Pitch 0.5mm, Thermal Pad 5.6x5.6mm, IPC High Density)
footprint STM-UFQFPN48_N (QFN, 48-Leads, Body 7.1x7.1mm, Pitch 0.5mm, Thermal Pad 5.6x5.6mm, IPC Medium Density)
footprint STM-UFQFPN48_M (QFN, 48-Leads, Body 7.1x7.1mm, Pitch 0.5mm, Thermal Pad 5.6x5.6mm, IPC Low Density)
pins: 1 VBAT (power) "Backup power supply", 2 PC13 (io) "PC13/WKUP2,RTC_TAMP1,RTC_TS,RTC_OUT", 3 PC14-OSC32_IN(PC14) (io) "PC14-OSC32_IN(PC14)/OSC32_IN", 4 PC15-OSC32_OUT(PC15) (io) "PC15-OSC32_OUT(PC15)/OSC32_OUT", 5 PF0-OSC_IN(PF0) (io) "PF0-OSC_IN(PF0)/CRS_SYNC,I2C1_SDA/OSC_IN", 6 PF1-OSC_OUT(PF1) (io) "PF1-OSC_OUT(PF1)/I2C1_SCL/OSC_OUT", 7 NRST (io) "Device reset input/internal reset output(active low)", 8 VSSA (power) "Analog ground", 9 VDDA (power) "Analog power supply", 10 PA0 (io) "PA0/USART2_CTS,TIM2_CH1_ETR,TSC_G1_IO1/RTC_TAMP2,WKUP1,ADC_IN0", 11 PA1 (io) "PA1/USART2_RTS,TIM2_CH2,TSC_G1_IO2,EVENTOUT/ADC_IN1", 12 PA2 (io) "PA2/USART2_TX,TIM2_CH3,TSC_G1_IO3/ADC_IN2,WKUP4", 13 PA3 (io) "PA3/USART2_RX,TIM2_CH4,TSC_G1_IO4/ADC_IN3", 14 PA4 (io) "PA4/SPI1_NSS,I2S1_WS,TIM14_CH1,TSC_G2_IO1,USART2_CK,USB_NOE/ADC_IN4", 15 PA5 (io) "PA5/SPI1_SCK,I2S1_CK,CEC,TIM2_CH1_ETR,TSC_G2_IO2/ADC_IN5", 16 PA6 (io) "PA6/SPI1_MISO,I2S1_MCK,TIM3_CH1,TIM1_BKIN,TIM16_CH1,TSC_G2_IO3,EVENTOUT/ADC_IN6", 17 PA7 (io) "PA7/SPI1_MOSI,I2S1_SD,TIM3_CH2,TIM14_CH1,TIM1_CH1N,TIM17_CH1,TSC_G2_IO4,EVENTOUT/ADC_IN7", 18 PB0 (io) "PB0/TIM3_CH3,TIM1_CH2N,TSC_G3_IO2,EVENTOUT/ADC_IN8", 19 PB1 (io) "PB1/TIM3_CH4,TIM14_CH1,TIM1_CH3N,TSC_G3_IO3/ADC_IN9", 20 PB2 (io) "PB2/TSC_G3_IO4", 21 PB10 (io) "PB10/SPI2_SCK,CEC,TSC_SYNC,TIM2_CH3,I2C1_SCL", 22 PB11 (io) "PB11/TIM2_CH4,EVENTOUT,I2C1_SDA", 23 VSS (power) "Ground", 24 VDD (power) "Digital power supply", 25 PB12 (io) "PB12/TIM1_BKIN,SPI2_NSS,EVENTOUT", 26 PB13 (io) "PB13/SPI2_SCK,TIM1_CH1N,I2C1_SCL", 27 PB14 (io) "PB14/SPI2_MISO,TIM1_CH2N,I2C1_SDA", 28 PB15 (io) "PB15/SPI2_MOSI,TIM1_CH3N/WKUP7,RTC_REFIN", 29 PA8 (io) "PA8/USART1_CK,TIM1_CH1,EVENTOUT,MCO,CRS_SYNC", 30 PA9 (io) "PA9/USART1_TX,TIM1_CH2,TSC_G4_IO1,I2C1_SCL", 31 PA10 (io) "PA10/USART1_RX,TIM1_CH3,TIM17_BKIN,TSC_G4_IO2,I2C1_SDA", 32 PA11 (io) "PA11/CAN_RX,USART1_CTS,TIM1_CH4,TSC_G4_IO3,EVENTOUT,I2C1_SCL/USB_DM", 33 PA12 (io) "PA12/CAN_TX,USART1_RTS,TIM1_ETR,TSC_G4_IO4,EVENTOUT,I2C1_SDA/USB_DP", 34 PA13 (io) "PA13/IR_OUT,SWDIO,USB_NOE", 35 VSS (power) "Ground", 36 VDDIO2 (power) "Digital power supply", 37 PA14 (io) "PA14/USART2_TX,SWCLK", 38 PA15 (io) "PA15/SPI1_NSS,I2S1_WS,USART2_RX,TIM2_CH1_ETR,EVENTOUT,USB_NOE", 39 PB3 (io) "PB3/SPI1_SCK,I2S1_CK,TIM2_CH2,TSC_G5_IO1,EVENTOUT", 40 PB4 (io) "PB4/SPI1_MISO,I2S1_MCK,TIM17_BKIN,TIM3_CH1,TSC_G5_IO2,EVENTOUT", 41 PB5 (io) "PB5/SPI1_MOSI,I2S1_SD,I2C1_SMBA,TIM16_BKIN,TIM3_CH2/WKUP6", 42 PB6 (io) "PB6/I2C1_SCL,USART1_TX,TIM16_CH1N,TSC_G5_IO3", 43 PB7 (io) "PB7/I2C1_SDA,USART1_RX,TIM17_CH1N,TSC_G5_IO4", 44 PF11-BOOT0 (io), 45 PB8 (io) "PB8/I2C1_SCL,CEC,TIM16_CH1,TSC_SYNC,CAN_RX", 46 PB9 (io) "PB9/SPI2_NSS,I2C1_SDA,IR_OUT,TIM17_CH1,EVENTOUT,CAN_TX", 47 VSS (power) "Ground", 48 VDD (power) "Digital power supply", 49 EP (power)

## STM32F042F4P6
designator U?  Supplier Part Number 1: 511-STM32F042F4P6  Supplier Part Number 2: 497-17343-ND
ARM Cortex-M0 32-bit MCU, 16 KB Flash, 6 KB Internal RAM, 16 I/Os, 20-Pin TSSOP, -40 to 85 degC, Tray; I/Os (High Current): 16; Internal RAM Size (kB): 6; Supply Voltage(Vcc) min (V): 2; Operating Frequency(F) (Processor speed) (MHz): 48; Packing: Tray; Core: ARM Cortex-M0; ComponentLink1Description: Manufacturer URL; FLASH Size (Prog) (kB): 16; Mounting Technology: Surface Mount; ComponentLink1URL: http://www.st.com/; DatasheetVersion: Rev. 5; ComponentLink2URL: http://www.st.com/st-web-ui/static/active/en/resource/technical/document/datasheet/DM00105814.pdf; Package Description: 20-Pin Thin Shrink Small Outline Package, Body 6.5 x 4.4 mm, Pitch 0.65 mm; ComponentLink2Description: Datasheet; Package Reference: TSSOP20; Supplier 1: Mouser; Supplier 2: Digi-Key
footprint STM-TSSOP20_N (SOP, 20-Leads, Body 6.6x4.5mm, Pitch 0.65mm, IPC Medium Density)
footprint STM-TSSOP20_L (SOP, 20-Leads, Body 6.6x4.5mm, Pitch 0.65mm, IPC High Density)
footprint STM-TSSOP20_M (SOP, 20-Leads, Body 6.6x4.5mm, Pitch 0.65mm, IPC Low Density)
pins: 1 PB8-BOOT0 (io) "PB8-BOOT0/I2C1_SCL,CEC,TIM16_CH1,TSC_SYNC,CAN_RX", 2 PF0-OSC_IN(PF0) (io) "PF0/CRS_SYNC,I2C1_SDA/OSC_IN", 3 PF1-OSC_OUT(PF1) (io) "PF1/I2C1_SCL/OSC_OUT", 4 NRST (io) "Device reset input/internal reset output(active low)", 5 VDDA (power) "Analog power supply", 6 PA0 (io) "PA0/USART2_CTS,TIM2_CH1_ETR,TSC_G1_IO1/RTC_TAMP2,WKUP1,ADC_IN0", 7 PA1 (io) "PA1/USART2_RTS,TIM2_CH2,TSC_G1_IO2,EVENTOUT/ADC_IN1", 8 PA2 (io) "PA2/USART2_TX,TIM2_CH3,TSC_G1_IO3/ADC_IN2,WKUP4", 9 PA3 (io) "PA3/USART2_RX,TIM2_CH4,TSC_G1_IO4/ADC_IN3", 10 PA4 (io) "PA4/SPI1_NSS,I2S1_WS,TIM14_CH1,TSC_G2_IO1,USART2_CK,USB_NOE/ADC_IN4", 11 PA5 (io) "PA5/SPI1_SCK,I2S1_CK,CEC,TIM2_CH1_ETR,TSC_G2_IO2/ADC_IN5", 12 PA6 (io) "PA6/SPI1_MISO,I2S1_MCK,TIM3_CH1,TIM1_BKIN,TIM16_CH1,TSC_G2_IO3,EVENTOUT/ADC_IN6", 13 PA7 (io) "PA7/SPI1_MOSI,I2S1_SD,TIM3_CH2,TIM14_CH1,TIM1_CH1N,TIM17_CH1,TSC_G2_IO4,EVENTOUT/ADC_IN7", 14 PB1 (io) "PB1/TIM3_CH4,TIM14_CH1,TIM1_CH3N,TSC_G3_IO3/ADC_IN9", 15 VSS (power) "Ground", 16 VDD (power) "Digital power supply", 17 PA9/PA11 (io) "PA9/USART1_TX,TIM1_CH2,TSC_G4_IO1,I2C1_SCL/PA11/CAN_RX,USART1_CTS,TIM1_CH4,TSC_G4_IO3,EVENTOUT,I2C1_SCL/USB_DM", 18 PA10/PA12 (io) "PA10/USART1_RX,TIM1_CH3,TIM17_BKIN,TSC_G4_IO2,I2C1_SDA/PA12/CAN_TX,USART1_RTS,TIM1_ETR,TSC_G4_IO4,EVENTOUT,I2C1_SDA/USB_DP", 19 PA13 (io) "PA13/IR_OUT,SWDIO,USB_NOE", 20 PA14 (io) "PA14/USART2_TX,SWCLK"

## STM32F042F4P6TR
designator U?  Supplier Part Number 1: STM32F042F4P6TR-ND  Supplier Part Number 2: 511-STM32F042F4P6TR
ARM Cortex-M0 32-bit MCU, 16 KB Flash, 6 KB Internal RAM, 16 I/Os, 20-Pin TSSOP, -40 to 85 degC, Tape and Reel; Internal RAM Size (kB): 6; I/Os (High Current): 16; Operating Frequency(F) (Processor speed) (MHz): 48; Supply Voltage(Vcc) min (V): 2; Package Reference: TSSOP20; Packing: Tape and Reel; ComponentLink2Description: Datasheet; DatasheetVersion: Rev. 5; ComponentLink1URL: http://www.st.com/; Package Description: 20-Pin Thin Shrink Small Outline Package, Body 6.5 x 4.4 mm, Pitch 0.65 mm; FLASH Size (Prog) (kB): 16; Core: ARM Cortex-M0; Mounting Technology: Surface Mount; ComponentLink2URL: http://www.st.com/st-web-ui/static/active/en/resource/technical/document/datasheet/DM00105814.pdf; ComponentLink1Description: Manufacturer URL; Supplier 1: Digi-Key; Supplier 2: Mouser
footprint STM-TSSOP20_N (SOP, 20-Leads, Body 6.6x4.5mm, Pitch 0.65mm, IPC Medium Density)
footprint STM-TSSOP20_L (SOP, 20-Leads, Body 6.6x4.5mm, Pitch 0.65mm, IPC High Density)
footprint STM-TSSOP20_M (SOP, 20-Leads, Body 6.6x4.5mm, Pitch 0.65mm, IPC Low Density)
pins: 1 PB8-BOOT0 (io) "PB8-BOOT0/I2C1_SCL,CEC,TIM16_CH1,TSC_SYNC,CAN_RX", 2 PF0-OSC_IN(PF0) (io) "PF0/CRS_SYNC,I2C1_SDA/OSC_IN", 3 PF1-OSC_OUT(PF1) (io) "PF1/I2C1_SCL/OSC_OUT", 4 NRST (io) "Device reset input/internal reset output(active low)", 5 VDDA (power) "Analog power supply", 6 PA0 (io) "PA0/USART2_CTS,TIM2_CH1_ETR,TSC_G1_IO1/RTC_TAMP2,WKUP1,ADC_IN0", 7 PA1 (io) "PA1/USART2_RTS,TIM2_CH2,TSC_G1_IO2,EVENTOUT/ADC_IN1", 8 PA2 (io) "PA2/USART2_TX,TIM2_CH3,TSC_G1_IO3/ADC_IN2,WKUP4", 9 PA3 (io) "PA3/USART2_RX,TIM2_CH4,TSC_G1_IO4/ADC_IN3", 10 PA4 (io) "PA4/SPI1_NSS,I2S1_WS,TIM14_CH1,TSC_G2_IO1,USART2_CK,USB_NOE/ADC_IN4", 11 PA5 (io) "PA5/SPI1_SCK,I2S1_CK,CEC,TIM2_CH1_ETR,TSC_G2_IO2/ADC_IN5", 12 PA6 (io) "PA6/SPI1_MISO,I2S1_MCK,TIM3_CH1,TIM1_BKIN,TIM16_CH1,TSC_G2_IO3,EVENTOUT/ADC_IN6", 13 PA7 (io) "PA7/SPI1_MOSI,I2S1_SD,TIM3_CH2,TIM14_CH1,TIM1_CH1N,TIM17_CH1,TSC_G2_IO4,EVENTOUT/ADC_IN7", 14 PB1 (io) "PB1/TIM3_CH4,TIM14_CH1,TIM1_CH3N,TSC_G3_IO3/ADC_IN9", 15 VSS (power) "Ground", 16 VDD (power) "Digital power supply", 17 PA9/PA11 (io) "PA9/USART1_TX,TIM1_CH2,TSC_G4_IO1,I2C1_SCL/PA11/CAN_RX,USART1_CTS,TIM1_CH4,TSC_G4_IO3,EVENTOUT,I2C1_SCL/USB_DM", 18 PA10/PA12 (io) "PA10/USART1_RX,TIM1_CH3,TIM17_BKIN,TSC_G4_IO2,I2C1_SDA/PA12/CAN_TX,USART1_RTS,TIM1_ETR,TSC_G4_IO4,EVENTOUT,I2C1_SDA/USB_DP", 19 PA13 (io) "PA13/IR_OUT,SWDIO,USB_NOE", 20 PA14 (io) "PA14/USART2_TX,SWCLK"

## STM32F042F6P6
designator U?  Supplier Part Number 1: 497-17344-ND  Supplier Part Number 2: 511-STM32F042F6P6
ARM Cortex-M0 32-bit MCU, 32 KB Flash, 6 KB Internal RAM, 16 I/Os, 20-Pin TSSOP, -40 to 85 degC, Tube; DatasheetVersion: Rev. 5; Package Description: 20-Pin Thin Shrink Small Outline Package, Body 6.5 x 4.4 mm, Pitch 0.65 mm; ComponentLink2URL: http://www.st.com/st-web-ui/static/active/en/resource/technical/document/datasheet/DM00105814.pdf; ComponentLink1URL: http://www.st.com/; ComponentLink1Description: Manufacturer URL; Package Reference: TSSOP20; Core: ARM Cortex-M0; Mounting Technology: Surface Mount; ComponentLink2Description: Datasheet; Supplier 1: Digi-Key; Supplier 2: Mouser
footprint STM-TSSOP20_N (SOP, 20-Leads, Body 6.6x4.5mm, Pitch 0.65mm, IPC Medium Density)
footprint STM-TSSOP20_L (SOP, 20-Leads, Body 6.6x4.5mm, Pitch 0.65mm, IPC High Density)
footprint STM-TSSOP20_M (SOP, 20-Leads, Body 6.6x4.5mm, Pitch 0.65mm, IPC Low Density)
pins: 1 PB8-BOOT0 (io) "PB8-BOOT0/I2C1_SCL,CEC,TIM16_CH1,TSC_SYNC,CAN_RX", 2 PF0-OSC_IN(PF0) (io) "PF0/CRS_SYNC,I2C1_SDA/OSC_IN", 3 PF1-OSC_OUT(PF1) (io) "PF1/I2C1_SCL/OSC_OUT", 4 NRST (io) "Device reset input/internal reset output(active low)", 5 VDDA (power) "Analog power supply", 6 PA0 (io) "PA0/USART2_CTS,TIM2_CH1_ETR,TSC_G1_IO1/RTC_TAMP2,WKUP1,ADC_IN0", 7 PA1 (io) "PA1/USART2_RTS,TIM2_CH2,TSC_G1_IO2,EVENTOUT/ADC_IN1", 8 PA2 (io) "PA2/USART2_TX,TIM2_CH3,TSC_G1_IO3/ADC_IN2,WKUP4", 9 PA3 (io) "PA3/USART2_RX,TIM2_CH4,TSC_G1_IO4/ADC_IN3", 10 PA4 (io) "PA4/SPI1_NSS,I2S1_WS,TIM14_CH1,TSC_G2_IO1,USART2_CK,USB_NOE/ADC_IN4", 11 PA5 (io) "PA5/SPI1_SCK,I2S1_CK,CEC,TIM2_CH1_ETR,TSC_G2_IO2/ADC_IN5", 12 PA6 (io) "PA6/SPI1_MISO,I2S1_MCK,TIM3_CH1,TIM1_BKIN,TIM16_CH1,TSC_G2_IO3,EVENTOUT/ADC_IN6", 13 PA7 (io) "PA7/SPI1_MOSI,I2S1_SD,TIM3_CH2,TIM14_CH1,TIM1_CH1N,TIM17_CH1,TSC_G2_IO4,EVENTOUT/ADC_IN7", 14 PB1 (io) "PB1/TIM3_CH4,TIM14_CH1,TIM1_CH3N,TSC_G3_IO3/ADC_IN9", 15 VSS (power) "Ground", 16 VDD (power) "Digital power supply", 17 PA9/PA11 (io) "PA9/USART1_TX,TIM1_CH2,TSC_G4_IO1,I2C1_SCL/PA11/CAN_RX,USART1_CTS,TIM1_CH4,TSC_G4_IO3,EVENTOUT,I2C1_SCL/USB_DM", 18 PA10/PA12 (io) "PA10/USART1_RX,TIM1_CH3,TIM17_BKIN,TSC_G4_IO2,I2C1_SDA/PA12/CAN_TX,USART1_RTS,TIM1_ETR,TSC_G4_IO4,EVENTOUT,I2C1_SDA/USB_DP", 19 PA13 (io) "PA13/IR_OUT,SWDIO,USB_NOE", 20 PA14 (io) "PA14/USART2_TX,SWCLK"

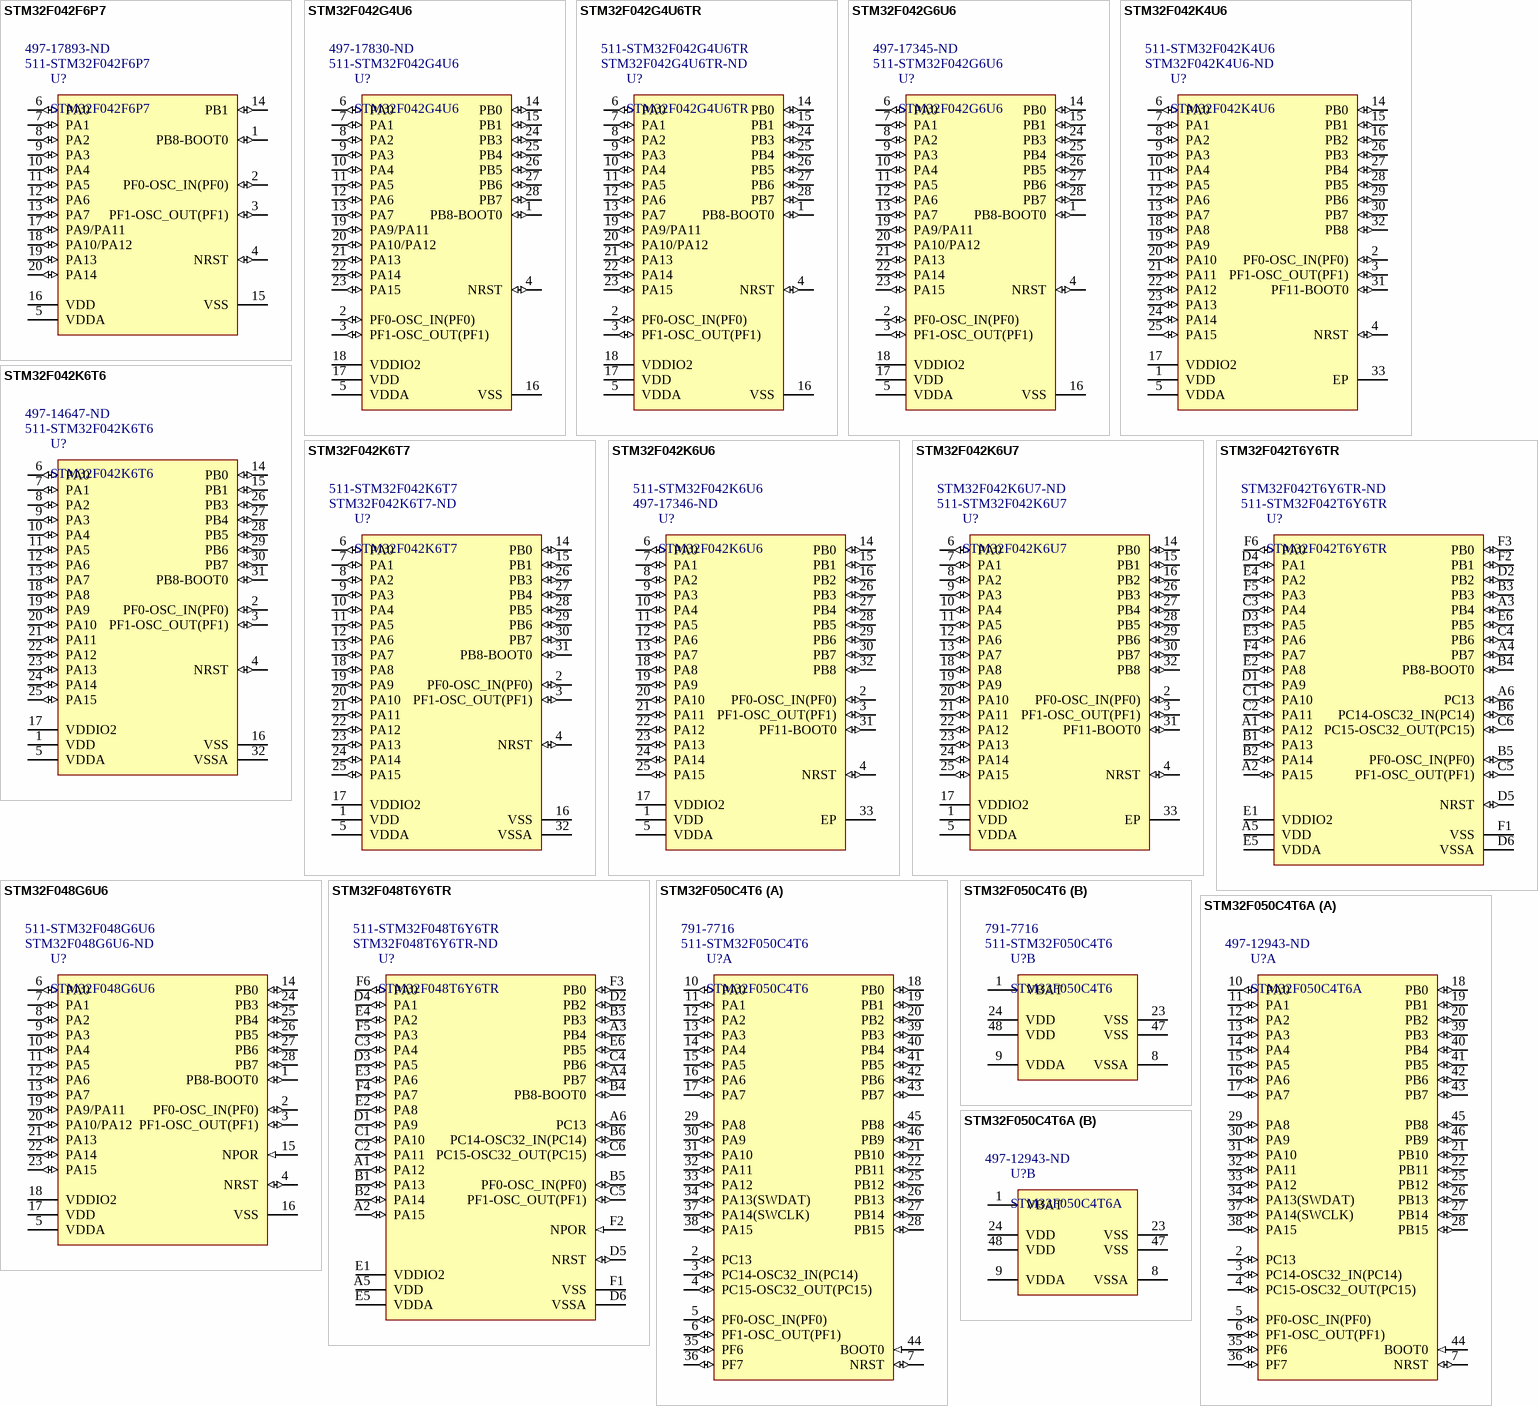
[diagram p4: symbols STM32F042F6P7 to STM32F050C4T6A]

## STM32F042F6P7
designator U?  Supplier Part Number 1: 511-STM32F042F6P7  Supplier Part Number 2: 497-17893-ND
ARM Cortex-M0 32-bit MCU, 32 KB Flash, 6 KB Internal RAM, 16 I/Os, 20-Pin TSSOP, -40 to 105 degC, Tray; FLASH Size (Prog) (kB): 32; Internal RAM Size (kB): 6; I/Os (High Current): 16; Supply Voltage(Vcc) min (V): 2; Operating Frequency(F) (Processor speed) (MHz): 48; Package Reference: TSSOP20; Mounting Technology: Surface Mount; DatasheetVersion: Rev. 5; ComponentLink1Description: Manufacturer URL; Package Description: 20-Pin Thin Shrink Small Outline Package, Body 6.5 x 4.4 mm, Pitch 0.65 mm; Core: ARM Cortex-M0; ComponentLink2URL: http://www.st.com/st-web-ui/static/active/en/resource/technical/document/datasheet/DM00105814.pdf; ComponentLink2Description: Datasheet; ComponentLink1URL: http://www.st.com/; Packing: Tray; Supplier 1: Mouser; Supplier 2: Digi-Key
footprint STM-TSSOP20_N (SOP, 20-Leads, Body 6.6x4.5mm, Pitch 0.65mm, IPC Medium Density)
footprint STM-TSSOP20_L (SOP, 20-Leads, Body 6.6x4.5mm, Pitch 0.65mm, IPC High Density)
footprint STM-TSSOP20_M (SOP, 20-Leads, Body 6.6x4.5mm, Pitch 0.65mm, IPC Low Density)
pins: 1 PB8-BOOT0 (io) "PB8-BOOT0/I2C1_SCL,CEC,TIM16_CH1,TSC_SYNC,CAN_RX", 2 PF0-OSC_IN(PF0) (io) "PF0/CRS_SYNC,I2C1_SDA/OSC_IN", 3 PF1-OSC_OUT(PF1) (io) "PF1/I2C1_SCL/OSC_OUT", 4 NRST (io) "Device reset input/internal reset output(active low)", 5 VDDA (power) "Analog power supply", 6 PA0 (io) "PA0/USART2_CTS,TIM2_CH1_ETR,TSC_G1_IO1/RTC_TAMP2,WKUP1,ADC_IN0", 7 PA1 (io) "PA1/USART2_RTS,TIM2_CH2,TSC_G1_IO2,EVENTOUT/ADC_IN1", 8 PA2 (io) "PA2/USART2_TX,TIM2_CH3,TSC_G1_IO3/ADC_IN2,WKUP4", 9 PA3 (io) "PA3/USART2_RX,TIM2_CH4,TSC_G1_IO4/ADC_IN3", 10 PA4 (io) "PA4/SPI1_NSS,I2S1_WS,TIM14_CH1,TSC_G2_IO1,USART2_CK,USB_NOE/ADC_IN4", 11 PA5 (io) "PA5/SPI1_SCK,I2S1_CK,CEC,TIM2_CH1_ETR,TSC_G2_IO2/ADC_IN5", 12 PA6 (io) "PA6/SPI1_MISO,I2S1_MCK,TIM3_CH1,TIM1_BKIN,TIM16_CH1,TSC_G2_IO3,EVENTOUT/ADC_IN6", 13 PA7 (io) "PA7/SPI1_MOSI,I2S1_SD,TIM3_CH2,TIM14_CH1,TIM1_CH1N,TIM17_CH1,TSC_G2_IO4,EVENTOUT/ADC_IN7", 14 PB1 (io) "PB1/TIM3_CH4,TIM14_CH1,TIM1_CH3N,TSC_G3_IO3/ADC_IN9", 15 VSS (power) "Ground", 16 VDD (power) "Digital power supply", 17 PA9/PA11 (io) "PA9/USART1_TX,TIM1_CH2,TSC_G4_IO1,I2C1_SCL/PA11/CAN_RX,USART1_CTS,TIM1_CH4,TSC_G4_IO3,EVENTOUT,I2C1_SCL/USB_DM", 18 PA10/PA12 (io) "PA10/USART1_RX,TIM1_CH3,TIM17_BKIN,TSC_G4_IO2,I2C1_SDA/PA12/CAN_TX,USART1_RTS,TIM1_ETR,TSC_G4_IO4,EVENTOUT,I2C1_SDA/USB_DP", 19 PA13 (io) "PA13/IR_OUT,SWDIO,USB_NOE", 20 PA14 (io) "PA14/USART2_TX,SWCLK"